# EAGLE library part LM741CN (library LM741CN)
OP AMP
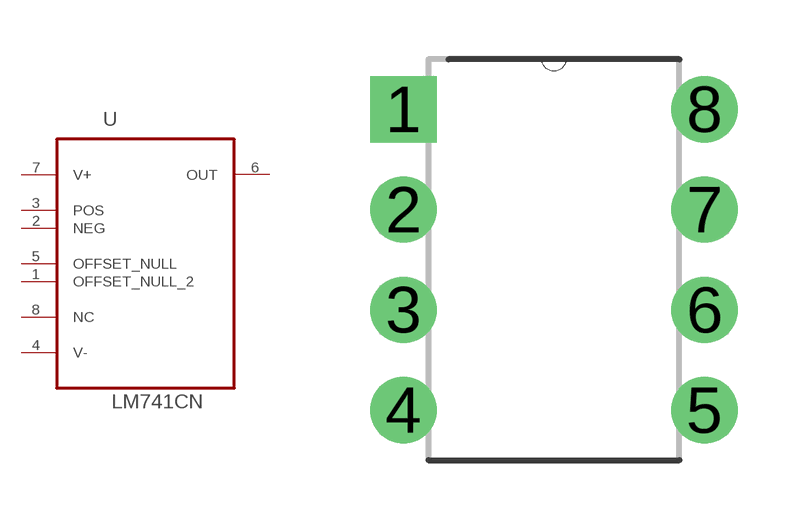
[diagram p0: symbol with the pads of DIP254P762X508-8; footprint DIP254P762X508-8]

Designator prefix U

## LM741CN (AVAILABILITY: Unavailable; MF: Texas Instruments; MP: LM741CN/NOPB; PACKAGE: DIP-8 Microsemi; PRICE: None)  [DIP254P762X508-8]
1  OFFSET_NULL_2  pas
2  NEG  in
3  POS  in
4  V-  pwr
5  OFFSET_NULL  pas
6  OUT  out
7  V+  pwr
8  NC  nc

## Footprint DIP254P762X508-8 (pad centres in mm)
drill 1.118 square: 1 -7.62,7.62
drill 1.118: 2 -7.62,5.08; 3 -7.62,2.54; 4 -7.62,0; 5 0,0; 6 0,2.54; 7 0,5.08; 8 0,7.62